# EAGLE library part DS2438 (library 1wire)
Smart Battery Monitor
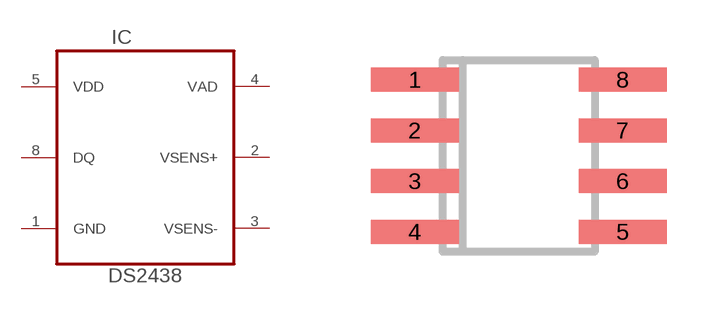
[diagram p1: symbol with the pads of SO-08; footprint SO-08]

Designator prefix IC

## DS2438  [SO-08]
1  GND  pas
2  VSENS+  in
3  VSENS-  in
4  VAD  in
5  VDD  pwr
8  DQ

## Footprint SO-08 (pad centres in mm)
Small Outline Narrow Plastic Gull Wing 150-mil body, package type SN
smd 2.2 x 0.6: 1 -2.6,1.905; 2 -2.6,0.635; 3 -2.6,-0.635; 4 -2.6,-1.905; 5 2.6,-1.905; 6 2.6,-0.635; 7 2.6,0.635; 8 2.6,1.905